# Altium schematic symbol library Mechanical.SchLib: 6 symbols
Pins are listed as number, name and electrical type; pins without a type are passive.

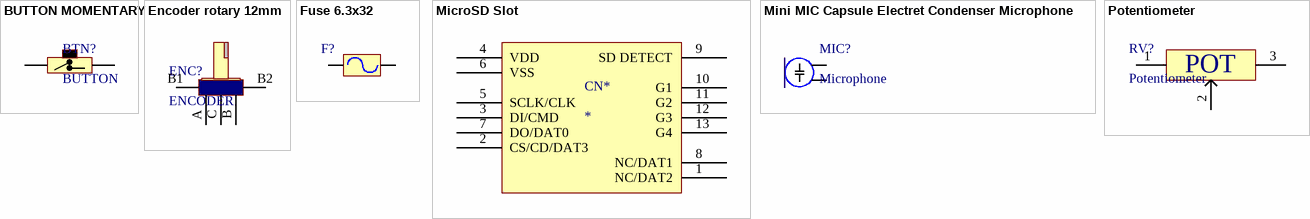
[diagram p0: symbols BUTTON MOMENTARY to Potentiometer]

## BUTTON MOMENTARY
designator BTN?, comment BUTTON
Momentary button
footprint Button PCB N12.2-4L-220 (Nicomatic N12.2-4l-(D)-220-21)
footprint Button; pin to pad 2>3
footprint BUTTON 6x6x5 (Micro push button)
pins: 1, 2

## Encoder rotary 12mm
designator ENC?, comment ENCODER
12mm Rotary Encoder w Button
footprint Rotary Encoder (12mm Rotary Encoder w Button)
pins: 0 GND hidden to GND, A, B, B1, B2, C

## Fuse 6.3x32
designator F?, comment Fuse  (value not drawn)
6.3x32
footprint Fuse 6.3mm
pins: 1, 2

## MicroSD Slot
designator CN*
footprint MICROSD Slot (MicroSD Card Socket)
pins: 1 NC/DAT2, 2 CS/CD/DAT3, 3 DI/CMD, 4 VDD, 5 SCLK/CLK, 6 VSS, 7 DO/DAT0, 8 NC/DAT1, 9 SD DETECT, 10 G1, 11 G2, 12 G3, 13 G4

## Mini MIC Capsule Electret Condenser Microphone
designator MIC?, comment Microphone
Mini MIC Capsule Electret Condenser
footprint Microphone (PCB mount condenser microphones)
pins: 0, 1

## Potentiometer
designator RV?
footprint PVZ3A (Potentiometer 3mm SMD)
pins: 1, 2, 3
text: POT